# Altium footprint library LQFP100_14X14_STM.PcbLib: 3 footprints
Each footprint in its own frame and in the unit in brackets; x right, y up, seen from the top. Pads: shape width x height; smd on the part's side, far side on the other; paste and mask are expansions set on the pad; w line width, h text height; cw(c..) or ccw(c..) is an arc to the next point about the centre after c.
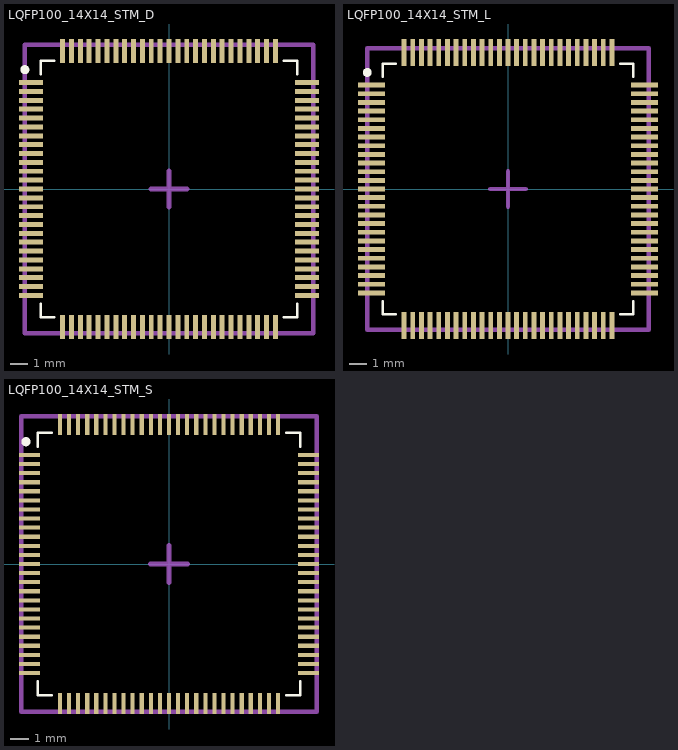
[diagram p0: the footprints below, top view; thin cyan lines are the x and y axes]

## LQFP100_14X14_STM_D [mil]
height 59.06
pads (100):
  rect 53.5x11 smd paste+0 mask+0: 1(-306.25,236.22) 2(-306.25,216.54) 3(-306.25,196.85) 4(-306.25,177.17) 5(-306.25,157.48) 6(-306.25,137.8) 7(-306.25,118.11) 8(-306.25,98.43) 9(-306.25,78.74) 10(-306.25,59.06) 11(-306.25,39.37) 12(-306.25,19.69) 13(-306.25,0) 14(-306.25,-19.68) 15(-306.25,-39.37) 16(-306.25,-59.06) 17(-306.25,-78.74) 18(-306.25,-98.43) 19(-306.25,-118.11) 20(-306.25,-137.8) 21(-306.25,-157.48) 22(-306.25,-177.17) 23(-306.25,-196.85) 24(-306.25,-216.54) 25(-306.25,-236.22) 51(306.25,-236.22) 52(306.25,-216.54) 53(306.25,-196.85) 54(306.25,-177.17) 55(306.25,-157.48) 56(306.25,-137.8) 57(306.25,-118.11) 58(306.25,-98.43) 59(306.25,-78.74) 60(306.25,-59.06) 61(306.25,-39.37) 62(306.25,-19.68) 63(306.25,0) 64(306.25,19.68) 65(306.25,39.37) 66(306.25,59.06) 67(306.25,78.74) 68(306.25,98.43) 69(306.25,118.11) 70(306.25,137.8) 71(306.25,157.48) 72(306.25,177.17) 73(306.25,196.85) 74(306.25,216.54) 75(306.25,236.22)
  rect 11x53.5 smd paste+0 mask+0: 26(-236.22,-306.25) 27(-216.54,-306.25) 28(-196.85,-306.25) 29(-177.17,-306.25) 30(-157.48,-306.25) 31(-137.8,-306.25) 32(-118.11,-306.25) 33(-98.43,-306.25) 34(-78.74,-306.25) 35(-59.06,-306.25) 36(-39.37,-306.25) 37(-19.68,-306.25) 38(0,-306.25) 39(19.68,-306.25) 40(39.37,-306.25) 41(59.06,-306.25) 42(78.74,-306.25) 43(98.43,-306.25) 44(118.11,-306.25) 45(137.8,-306.25) 46(157.48,-306.25) 47(177.17,-306.25) 48(196.85,-306.25) 49(216.54,-306.25) 50(236.22,-306.25) 76(236.22,306.25) 77(216.54,306.25) 78(196.85,306.25) 79(177.17,306.25) 80(157.48,306.25) 81(137.8,306.25) 82(118.11,306.25) 83(98.43,306.25) 84(78.74,306.25) 85(59.06,306.25) 86(39.37,306.25) 87(19.68,306.25) 88(0,306.25) 89(-19.68,306.25) 90(-39.37,306.25) 91(-59.06,306.25) 92(-78.74,306.25) 93(-98.43,306.25) 94(-118.11,306.25) 95(-137.8,306.25) 96(-157.48,306.25) 97(-177.17,306.25) 98(-196.85,306.25) 99(-216.54,306.25) 100(-236.22,306.25)
Top Overlay:
  circle w10: c-320,265 r5
  lines w6: -284.5,-254.82 -284.5,-284.5 -254.82,-284.5 ; -284.5,254.82 -284.5,284.5 -254.82,284.5 ; 254.82,-284.5 284.5,-284.5 284.5,-254.82 ; 254.82,284.5 284.5,284.5 284.5,254.82
Mechanical 13 (Mech13):
  lines w10: -320,-320 320,-320 320,320 -320,320 -320,-320
Mechanical 15:
  lines w10: -40,0 0,0 ; 0,-40 0,0 ; 0,40 0,0 ; 40,0 0,0
3D body: height 10, standoff 0, extent 0,0 10,10
3D body "LQFP100_14X14_STM.step": height 63.11, standoff 0, extent -319.01,-319.01 319.01,319.01

## LQFP100_14X14_STM_L [mil]
height 59.06
pads (100):
  rect 61.5x11 smd paste+0 mask+0: 1(-310.25,236.22) 2(-310.25,216.54) 3(-310.25,196.85) 4(-310.25,177.17) 5(-310.25,157.48) 6(-310.25,137.8) 7(-310.25,118.11) 8(-310.25,98.43) 9(-310.25,78.74) 10(-310.25,59.06) 11(-310.25,39.37) 12(-310.25,19.69) 13(-310.25,0) 14(-310.25,-19.68) 15(-310.25,-39.37) 16(-310.25,-59.06) 17(-310.25,-78.74) 18(-310.25,-98.43) 19(-310.25,-118.11) 20(-310.25,-137.8) 21(-310.25,-157.48) 22(-310.25,-177.17) 23(-310.25,-196.85) 24(-310.25,-216.54) 25(-310.25,-236.22) 51(310.25,-236.22) 52(310.25,-216.54) 53(310.25,-196.85) 54(310.25,-177.17) 55(310.25,-157.48) 56(310.25,-137.8) 57(310.25,-118.11) 58(310.25,-98.43) 59(310.25,-78.74) 60(310.25,-59.06) 61(310.25,-39.37) 62(310.25,-19.68) 63(310.25,0) 64(310.25,19.68) 65(310.25,39.37) 66(310.25,59.06) 67(310.25,78.74) 68(310.25,98.43) 69(310.25,118.11) 70(310.25,137.8) 71(310.25,157.48) 72(310.25,177.17) 73(310.25,196.85) 74(310.25,216.54) 75(310.25,236.22)
  rect 11x61.5 smd paste+0 mask+0: 26(-236.22,-310.25) 27(-216.54,-310.25) 28(-196.85,-310.25) 29(-177.17,-310.25) 30(-157.48,-310.25) 31(-137.8,-310.25) 32(-118.11,-310.25) 33(-98.43,-310.25) 34(-78.74,-310.25) 35(-59.06,-310.25) 36(-39.37,-310.25) 37(-19.68,-310.25) 38(0,-310.25) 39(19.68,-310.25) 40(39.37,-310.25) 41(59.06,-310.25) 42(78.74,-310.25) 43(98.43,-310.25) 44(118.11,-310.25) 45(137.8,-310.25) 46(157.48,-310.25) 47(177.17,-310.25) 48(196.85,-310.25) 49(216.54,-310.25) 50(236.22,-310.25) 76(236.22,310.25) 77(216.54,310.25) 78(196.85,310.25) 79(177.17,310.25) 80(157.48,310.25) 81(137.8,310.25) 82(118.11,310.25) 83(98.43,310.25) 84(78.74,310.25) 85(59.06,310.25) 86(39.37,310.25) 87(19.68,310.25) 88(0,310.25) 89(-19.68,310.25) 90(-39.37,310.25) 91(-59.06,310.25) 92(-78.74,310.25) 93(-98.43,310.25) 94(-118.11,310.25) 95(-137.8,310.25) 96(-157.48,310.25) 97(-177.17,310.25) 98(-196.85,310.25) 99(-216.54,310.25) 100(-236.22,310.25)
Top Overlay:
  circle w10: c-320,265 r5
  lines w6: -284.5,-254.82 -284.5,-284.5 -254.82,-284.5 ; -284.5,254.82 -284.5,284.5 -254.82,284.5 ; 254.82,-284.5 284.5,-284.5 284.5,-254.82 ; 254.82,284.5 284.5,284.5 284.5,254.82
Mechanical 13 (Mech13):
  lines w10: -320,-320 -320,320 320,320 320,-320 -320,-320
Mechanical 15:
  lines w10: -40,0 0,0 ; 0,-40 0,0 ; 0,40 0,0 ; 40,0 0,0
3D body "LQFP100_14X14_STM.step": height 63.11, standoff 0, extent -319.01,-319.01 319.01,319.01

## LQFP100_14X14_STM_S [mil]
height 59.06
pads (100):
  rect 45.5x9 smd paste+0 mask+0: 1(-302.25,236.22) 2(-302.25,216.54) 3(-302.25,196.85) 4(-302.25,177.17) 5(-302.25,157.48) 6(-302.25,137.8) 7(-302.25,118.11) 8(-302.25,98.43) 9(-302.25,78.74) 10(-302.25,59.06) 11(-302.25,39.37) 12(-302.25,19.69) 13(-302.25,0) 14(-302.25,-19.68) 15(-302.25,-39.37) 16(-302.25,-59.06) 17(-302.25,-78.74) 18(-302.25,-98.43) 19(-302.25,-118.11) 20(-302.25,-137.8) 21(-302.25,-157.48) 22(-302.25,-177.17) 23(-302.25,-196.85) 24(-302.25,-216.54) 25(-302.25,-236.22) 51(302.25,-236.22) 52(302.25,-216.54) 53(302.25,-196.85) 54(302.25,-177.17) 55(302.25,-157.48) 56(302.25,-137.8) 57(302.25,-118.11) 58(302.25,-98.43) 59(302.25,-78.74) 60(302.25,-59.06) 61(302.25,-39.37) 62(302.25,-19.68) 63(302.25,0) 64(302.25,19.68) 65(302.25,39.37) 66(302.25,59.06) 67(302.25,78.74) 68(302.25,98.43) 69(302.25,118.11) 70(302.25,137.8) 71(302.25,157.48) 72(302.25,177.17) 73(302.25,196.85) 74(302.25,216.54) 75(302.25,236.22)
  rect 9x45.5 smd paste+0 mask+0: 26(-236.22,-302.25) 27(-216.54,-302.25) 28(-196.85,-302.25) 29(-177.17,-302.25) 30(-157.48,-302.25) 31(-137.8,-302.25) 32(-118.11,-302.25) 33(-98.43,-302.25) 34(-78.74,-302.25) 35(-59.06,-302.25) 36(-39.37,-302.25) 37(-19.68,-302.25) 38(0,-302.25) 39(19.68,-302.25) 40(39.37,-302.25) 41(59.06,-302.25) 42(78.74,-302.25) 43(98.43,-302.25) 44(118.11,-302.25) 45(137.8,-302.25) 46(157.48,-302.25) 47(177.17,-302.25) 48(196.85,-302.25) 49(216.54,-302.25) 50(236.22,-302.25) 76(236.22,302.25) 77(216.54,302.25) 78(196.85,302.25) 79(177.17,302.25) 80(157.48,302.25) 81(137.8,302.25) 82(118.11,302.25) 83(98.43,302.25) 84(78.74,302.25) 85(59.06,302.25) 86(39.37,302.25) 87(19.68,302.25) 88(0,302.25) 89(-19.68,302.25) 90(-39.37,302.25) 91(-59.06,302.25) 92(-78.74,302.25) 93(-98.43,302.25) 94(-118.11,302.25) 95(-137.8,302.25) 96(-157.48,302.25) 97(-177.17,302.25) 98(-196.85,302.25) 99(-216.54,302.25) 100(-236.22,302.25)
Top Overlay:
  circle w10: c-310,265 r5
  lines w6: -284.5,-253.82 -284.5,-284.5 -253.82,-284.5 ; -284.5,253.82 -284.5,284.5 -253.82,284.5 ; 253.82,-284.5 284.5,-284.5 284.5,-253.82 ; 253.82,284.5 284.5,284.5 284.5,253.82
Mechanical 13 (Mech13):
  lines w10: -320,-320 320,-320 320,320 -320,320 -320,-320
Mechanical 15:
  lines w10: -40,0 0,0 ; 0,-40 0,0 ; 0,40 0,0 ; 40,0 0,0
3D body "LQFP100_14X14_STM.step": height 63.11, standoff 0, extent -319.01,-319.02 319.02,319.01
3D body: height 10, standoff 0, extent 0,0 10,10